# EAGLE library part TEENSY (library Teensy)
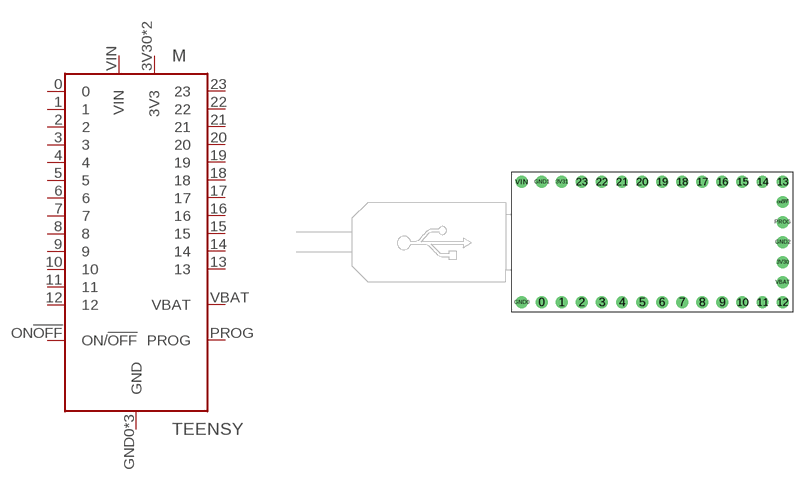
[diagram p0: symbol with the pads of TEENSY; footprint TEENSY]

Designator prefix M

## TEENSY  [TEENSY]
0  0
1  1
2  2
3  3
3V30  3V3
3V31  3V3
4  4
5  5
6  6
7  7
8  8
9  9
10  10
11  11
12  12
13  13
14  14
15  15
16  16
17  17
18  18
19  19
20  20
21  21
22  22
23  23
GND0  GND
GND1  GND
GND2  GND
ON!OFF  ON/!OFF
PROG  PROG
VBAT  VBAT
VIN  VIN

## Footprint TEENSY (pad centres in mm)
drill 1: 0 -13.97,-7.62; 1 -11.43,-7.62; 2 -8.89,-7.62; 3 -6.35,-7.62; 3V30 16.51,-2.54; 3V31 -11.43,7.62; 4 -3.81,-7.62; 5 -1.27,-7.62; 6 1.27,-7.62; 7 3.81,-7.62; 8 6.35,-7.62; 9 8.89,-7.62; 10 11.43,-7.62; 11 13.97,-7.62; 12 16.51,-7.62; 13 16.51,7.62; 14 13.97,7.62; 15 11.43,7.62; 16 8.89,7.62; 17 6.35,7.62; 18 3.81,7.62; 19 1.27,7.62; 20 -1.27,7.62; 21 -3.81,7.62; 22 -6.35,7.62; 23 -8.89,7.62; GND0 -16.51,-7.62; GND1 -13.97,7.62; GND2 16.51,0; ON!OFF 16.51,5.08; PROG 16.51,2.54; VBAT 16.51,-5.08; VIN -16.51,7.62